# Altium footprint library PcbLib1.PcbLib: 38 footprints (part 2 of 3)
Each footprint in its own frame and in the unit in brackets; x right, y up, seen from the top. Pads: shape width x height; smd on the part's side, far side on the other; paste and mask are expansions set on the pad; w line width, h text height; cw(c..) or ccw(c..) is an arc to the next point about the centre after c.
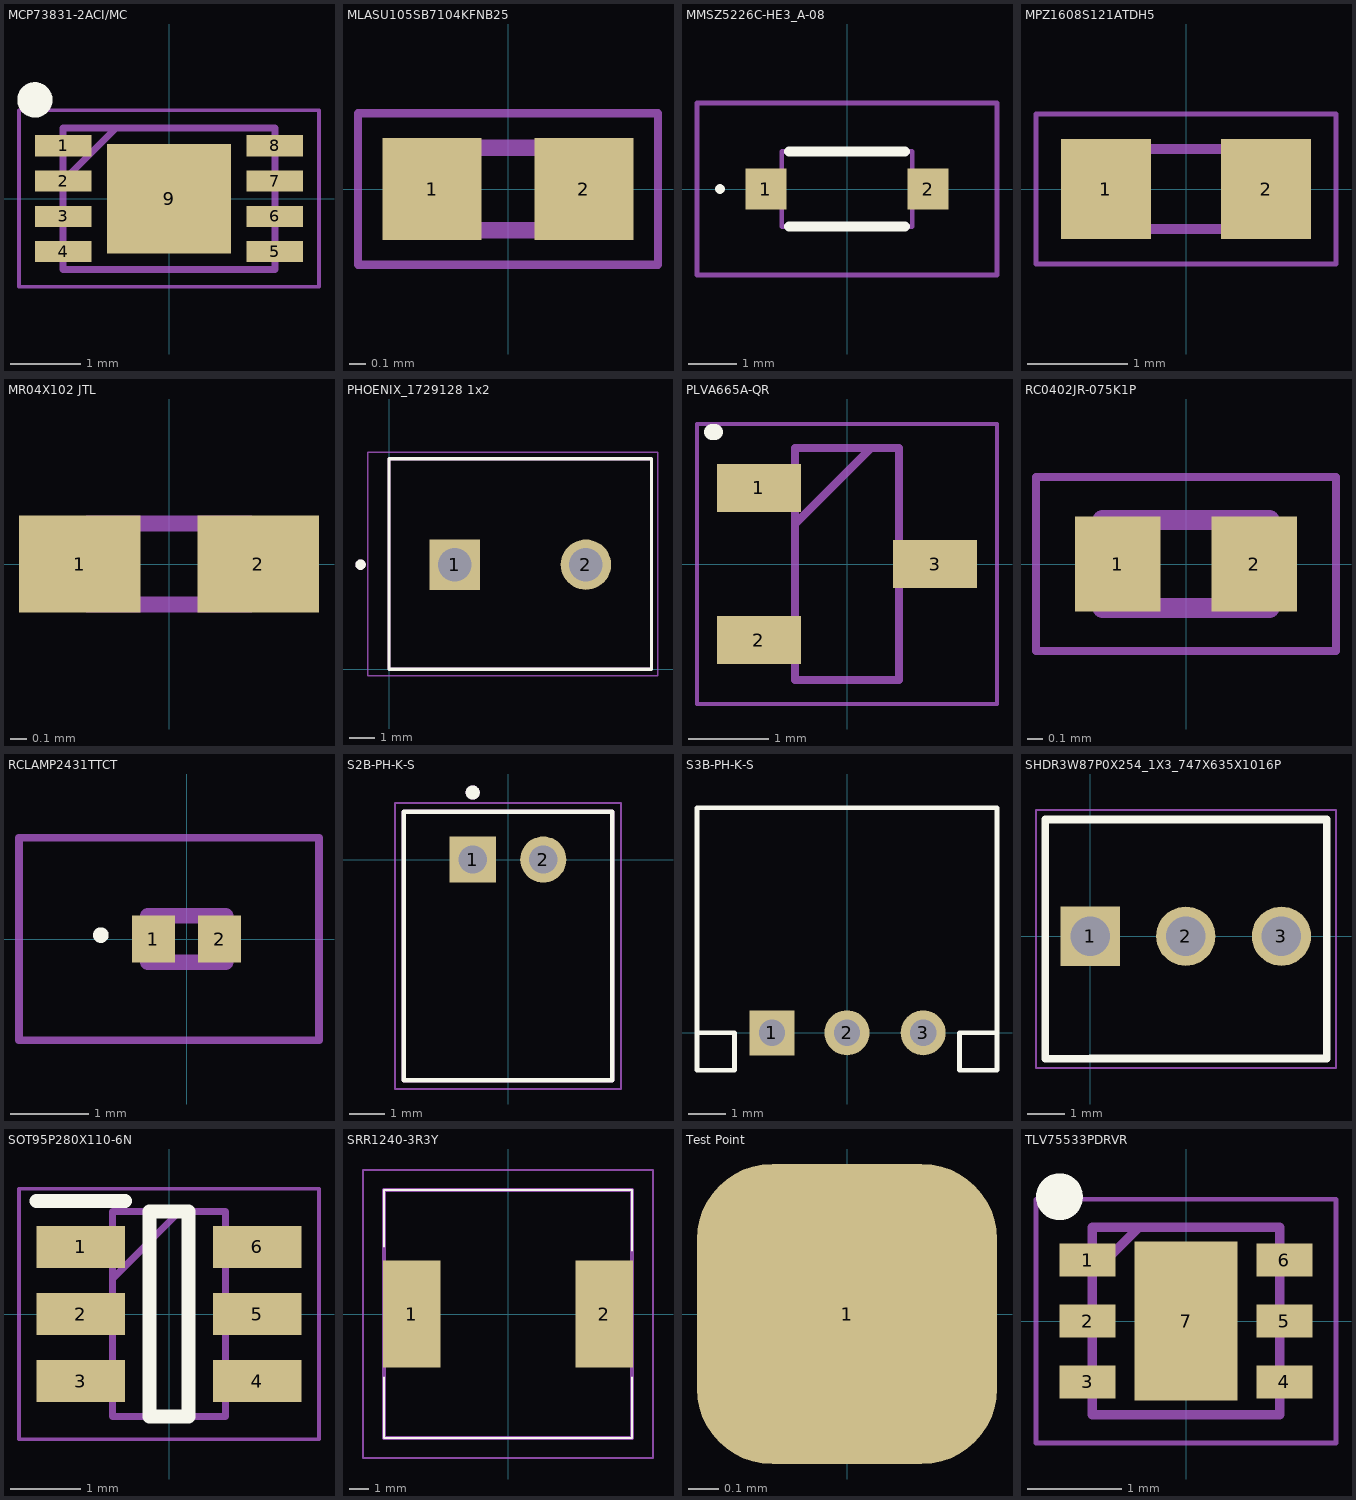
[diagram p1: the footprints below, top view; thin cyan lines are the x and y axes]

## MCP73831-2ACI/MC [mm] "Charger"
pads (9):
  rect 0.8x0.3 smd: 1(-1.5,0.75) 2(-1.5,0.25) 3(-1.5,-0.25) 4(-1.5,-0.75) 5(1.5,-0.75) 6(1.5,-0.25) 7(1.5,0.25) 8(1.5,0.75)
  rect 1.75x1.55 smd: 9(0,0)
Top Overlay:
  circle w0.25: c-1.9,1.4 r0.125
Mechanical 15:
  lines w0.1: -1.5,0.25 -0.75,1 ; -1.5,-1 -1.5,1 1.5,1 1.5,-1 -1.5,-1
Mechanical 20:
  lines w0.05: -2.125,-1.25 -2.125,1.25 2.125,1.25 2.125,-1.25 -2.125,-1.25
3D body "MCP73831-2ACI_MC.stp": height 1, standoff 0, extent -1.55,-1 1.55,1

## MLASU105SB7104KFNB25 [mm] "0.1 uF"
pads (2):
  rect 0.6x0.62 smd: 1(-0.46,0) 2(0.46,0)
Mechanical 15:
  lines w0.1: -0.5,-0.25 0.5,-0.25 0.5,0.25 -0.5,0.25 -0.5,-0.25
Mechanical 20:
  lines w0.05: -0.91,-0.46 0.91,-0.46 0.91,0.46 -0.91,0.46 -0.91,-0.46
3D body "MLASU105SB7104KFNB25.stp": height 0.55, standoff 0, extent -0.5,-0.25 0.5,0.25

## MMSZ5226C-HE3_A-08 [mm] "Zener 3.3V"
pads (2):
  rect 0.85x0.85 smd: 1(-1.675,0) 2(1.675,0)
Top Overlay:
  lines w0.1: -2.675,0 ccw(c-2.625,0) -2.575,0 ccw(c-2.625,0) -2.675,0
  lines w0.2: -1.2,-0.775 1.2,-0.775 ; -1.2,0.775 1.2,0.775
Mechanical 15:
  lines w0.1: -1.35,-0.775 1.35,-0.775 1.35,0.775 -1.35,0.775 -1.35,-0.775
Mechanical 20:
  lines w0.1: -3.1,-1.775 3.1,-1.775 3.1,1.775 -3.1,1.775 -3.1,-1.775
3D body "MMSZ5226C-HE3_A-08.stp": height 1.45, standoff 0, extent -2.015,-0.775 2.015,0.775

## MPZ1608S121ATDH5 [mm]
pads (2):
  rect 0.9x1 smd: 1(-0.8,0) 2(0.8,0)
Mechanical 15:
  lines w0.1: -0.8,-0.4 0.8,-0.4 0.8,0.4 -0.8,0.4 -0.8,-0.4
Mechanical 20:
  lines w0.05: -1.5,-0.75 1.5,-0.75 1.5,0.75 -1.5,0.75 -1.5,-0.75
3D body "MPZ1608S121ATDH5.stp": height 0.75, standoff 0, extent -0.8,-0.4 0.8,0.4

## MR04X102 JTL [mm] "1k 0402"
pads (2):
  rect 0.75x0.6 smd: 1(-0.55,0) 2(0.55,0)
Mechanical 15:
  lines w0.1: -0.5,-0.25 0.5,-0.25 0.5,0.25 -0.5,0.25 -0.5,-0.25
3D body "MR04X102_JTL.stp": height 0.4, standoff 0, extent -0.5,-0.25 0.5,0.25

## PHOENIX_1729128 1x2 [mm]
height 10.15
pads (2):
  rect 1.95x1.95 / inner round 1.95 / far side rect 1.95x1.95 hole 1.3: 1(2.54,4.05)
  round 1.95 hole 1.3: 2(7.62,4.05)
Top Overlay:
  circle w0.2: c-1.1,4.05 r0.1
  lines w0.127: 0,0 10.16,0 10.16,8.15 0,8.15 0,0
Mechanical 13:
  circle w0.2: c-1.1,4.05 r0.1
  lines w0.127: 0,0 10.16,0 10.16,8.15 0,8.15 0,0
Mechanical 15:
  lines w0.05: -0.82,-0.25 10.41,-0.25 10.41,8.4 -0.82,8.4 -0.82,-0.25
3D body "1729128.stp": height 9.97, standoff -3.5, extent -0.536,-0.127 10.188,8.023

## PLVA665A-QR [mm] "6.5V Zener Diode"
pads (3):
  rect 1.05x0.6 smd: 1(-1.1,0.95) 2(-1.1,-0.95) 3(1.1,0)
Top Overlay:
  lines w0.2: -1.685,1.651 -1.651,1.651
Mechanical 15:
  lines w0.1: -0.65,0.5 0.3,1.45 ; -0.65,-1.45 0.65,-1.45 0.65,1.45 -0.65,1.45 -0.65,-1.45
Mechanical 20:
  lines w0.05: -1.875,-1.75 1.875,-1.75 1.875,1.75 -1.875,1.75 -1.875,-1.75
3D body "PLVA665A-QR.stp": height 0.94, standoff -0.01, extent -1.131,-1.45 1.27,1.45

## RC0402JR-075K1P [mm] "5.1k Resistor"
pads (2):
  rect 0.54x0.6 smd: 1(-0.432,0) 2(0.432,0)
Mechanical 13:
  lines w0.127: -0.53,-0.28 -0.53,0.28 0.53,0.28 0.53,-0.28 -0.53,-0.28
Mechanical 15:
  lines w0.05: -0.95,-0.55 -0.95,0.55 0.95,0.55 0.95,-0.55 -0.95,-0.55
3D body "RC0402JR-074K7L.STEP": height 0.4, standoff 0, extent -0.5,-0.254 0.5,0.246

## RCLAMP2431TTCT [mm]
pads (2):
  rect 0.55x0.6 smd: 1(-0.425,0) 2(0.425,0)
Top Overlay:
  lines w0.1: -1.1,0 ccw(c-1.1,0.05) -1.1,0.1 ccw(c-1.1,0.05) -1.1,0
Mechanical 15:
  lines w0.2: -0.5,-0.3 0.5,-0.3 0.5,0.3 -0.5,0.3 -0.5,-0.3
Mechanical 20:
  lines w0.1: -2.15,-1.3 1.7,-1.3 1.7,1.3 -2.15,1.3 -2.15,-1.3
3D body "RCLAMP2431T.TCT.stp": height 0.53, standoff 0, extent -0.645,-0.3 0.645,0.3

## S2B-PH-K-S [mm] "JST-PH 2.0"
height 4.8
pads (2):
  rect 1.308x1.308 / inner round 1.308 / far side rect 1.308x1.308 hole 0.8: 1(-1,0)
  round 1.308 hole 0.8: 2(1,0)
Top Overlay:
  circle w0.2: c-1,1.9 r0.1
  lines w0.127: -2.95,-6.25 2.95,-6.25 2.95,1.35 -2.95,1.35 -2.95,-6.25
Mechanical 13:
  circle w0.2: c-1,1.9 r0.1
  lines w0.127: -2.95,-6.25 2.95,-6.25 2.95,1.35 -2.95,1.35 -2.95,-6.25
Mechanical 15:
  lines w0.05: -3.2,-6.5 3.2,-6.5 3.2,1.6 -3.2,1.6 -3.2,-6.5
3D body "step_temp.STEP": height 4.8, standoff -3.38, extent -2.921,-6.213 2.979,1.387

## S3B-PH-K-S [mm]
pads (3):
  rect 1.2x1.2 hole 0.7: 1(-2,0)
  round 1.2 hole 0.7: 2(0,0) 3(2.032,0)
Top Overlay:
  lines w0.127: -4,0 -4,-1 -3,-1 -3,0 -4,0 ; -4,0 -4,6 4,6 4,0 ; 4,0 4,-1 3,-1 3,0 4,0
3D body "step_temp.STEP": height 4.8, standoff -3.38, extent -3.95,-1.377 3.95,6.223

## SHDR3W87P0X254_1X3_747X635X1016P [mm]
pads (3):
  rect 1.575x1.575 / inner round 1.575 / far side rect 1.575x1.575 hole 1.05: 1(0,0)
  round 1.575 hole 1.05: 2(2.54,0) 3(5.08,0)
Top Overlay:
  lines w0.2: -0.005,-3.255 -1.19,-3.255 -1.19,0 -1.19,3.1 6.28,3.1 6.28,-3.25 0,-3.25
Mechanical 15:
  lines w0.1: -1.19,-3.25 -1.19,3.1 6.28,3.1 6.28,-3.25 -1.19,-3.25
Mechanical 20:
  lines w0.05: -1.44,-3.5 -1.44,3.35 6.53,3.35 6.53,-3.5 -1.44,-3.5
3D body "22-23-2033.stp": height 10.16, standoff -3.68, extent -1.195,-3.175 6.275,3.175

## SOT95P280X110-6N [mm]
pads (6):
  rect 1.25x0.6 smd: 1(-1.25,0.95) 2(-1.25,0) 3(-1.25,-0.95) 4(1.25,-0.95) 5(1.25,0) 6(1.25,0.95)
Top Overlay:
  lines w0.2: -1.875,1.6 -0.625,1.6 ; -0.275,-1.45 -0.275,1.45 0.275,1.45 0.275,-1.45 -0.275,-1.45
Mechanical 15:
  lines w0.1: -0.8,0.5 0.15,1.45 ; -0.8,-1.45 -0.8,1.45 0.8,1.45 0.8,-1.45 -0.8,-1.45
Mechanical 20:
  lines w0.05: -2.125,-1.775 -2.125,1.775 2.125,1.775 2.125,-1.775 -2.125,-1.775
3D body "TPS565208DDCR.stp": height 0.97, standoff 0, extent -1.4,-1.45 1.4,1.45

## SRR1240-3R3Y [mm]
pads (2):
  rect 2.9x5.4 smd: 1(-4.85,0) 2(4.85,0)
Top Overlay:
  lines w0.1: -6.25,-3.2 -6.25,-6.25 6.25,-6.25 6.25,-3.2 ; -6.25,3.4 -6.25,6.25 6.25,6.25 6.25,3.2
Mechanical 15:
  lines w0.2: -6.25,-6.25 -6.25,6.25 6.25,6.25 6.25,-6.25 -6.25,-6.25
Mechanical 20:
  lines w0.1: -7.3,-7.25 -7.3,7.25 7.3,7.25 7.3,-7.25 -7.3,-7.25
3D body "SRR1240-3R3Y.stp": height 4, standoff 0, extent -6.25,-6.25 6.25,6.25

## Test Point [mm] "Test Point"
pads (1):
  rrect50% 1x1 smd: 1(0,0)

## TLV75533PDRVR [mm] "LDO"
pads (7):
  rect 0.6x0.35 smd: 1(-1.05,0.65) 2(-1.05,0) 3(-1.05,-0.65) 4(1.05,-0.65) 5(1.05,0) 6(1.05,0.65)
  rect 1.1x1.7 smd: 7(0,0)
Top Overlay:
  circle w0.25: c-1.35,1.325 r0.125
Mechanical 15:
  lines w0.1: -1,0.5 -0.5,1 ; -1,-1 -1,1 1,1 1,-1 -1,-1
Mechanical 20:
  lines w0.05: -1.6,-1.3 -1.6,1.3 1.6,1.3 1.6,-1.3 -1.6,-1.3
3D body "TLV75533PDRVR.stp": height 0.8, standoff 0, extent -1,-1 1,1